# Altium integrated library b3f-4050.IntLib: 1 symbol
Pins are listed as number, name and electrical type; pins without a type are passive.

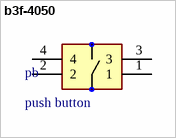
[diagram p0: symbol b3f-4050]

## b3f-4050
designator pb, comment push button
footprint b3f-4050
pins: 1, 2, 3, 4